# EAGLE library part SN74LS14N (library synergy)
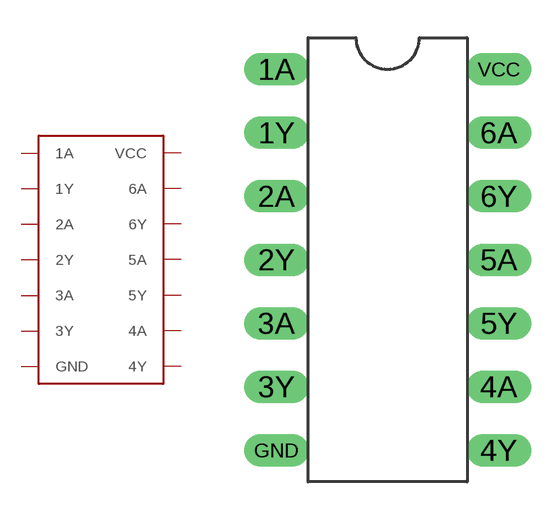
[diagram p0: symbol with the pads of P-DIP; footprint P-DIP]

Designator prefix -

## SN74LS14N  [P-DIP]
1A  1A
1Y  1Y
2A  2A
2Y  2Y
3A  3A
3Y  3Y
4A  4A
4Y  4Y
5A  5A
5Y  5Y
6A  6A
6Y  6Y
GND  GND
VCC  VCC

## Footprint P-DIP (pad centres in mm)
drill 0.8 long: 1A -5.715,7.62; 1Y -5.715,5.08; 2A -5.715,2.54; 2Y -5.715,0; 3A -5.715,-2.54; 3Y -5.715,-5.08; 4A 3.175,-5.08; 4Y 3.175,-7.62; 5A 3.175,0; 5Y 3.175,-2.54; 6A 3.175,5.08; 6Y 3.175,2.54; GND -5.715,-7.62; VCC 3.175,7.62